# Altium integrated library Resistor Array 4.IntLib: 1 symbol
Pins are listed as number, name and electrical type; pins without a type are passive.

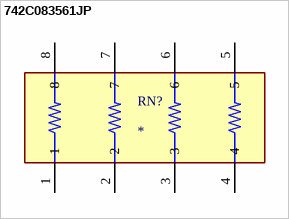
[diagram p0: symbol 742C083561JP]

## 742C083561JP
designator RN?
560 Ohm Â±5% 62.5mW Power Per Element Isolated Resistor Network/Array Â±200ppm/Â°C 1206 (3216 Metric), Concave, Long Side Terminals; MF: CTS Resistor; MP: 742C083561JP; SnapEDA_Link: https://www.snapeda.com/parts/742C083561JP/CTS+Components/view-part/?ref=snap; Package: 1206 CTS Resistor; Value: *; Check_prices: https://www.snapeda.com/parts/742C083561JP/CTS+Components/view-part/?ref=eda
footprint RESCAV80P320X160X70-8N
pins: 1, 2, 3, 4, 5, 6, 7, 8